# EAGLE library part E?1X07 (library apbteam_con-amp-he14)
Male header simple row, 7 positions
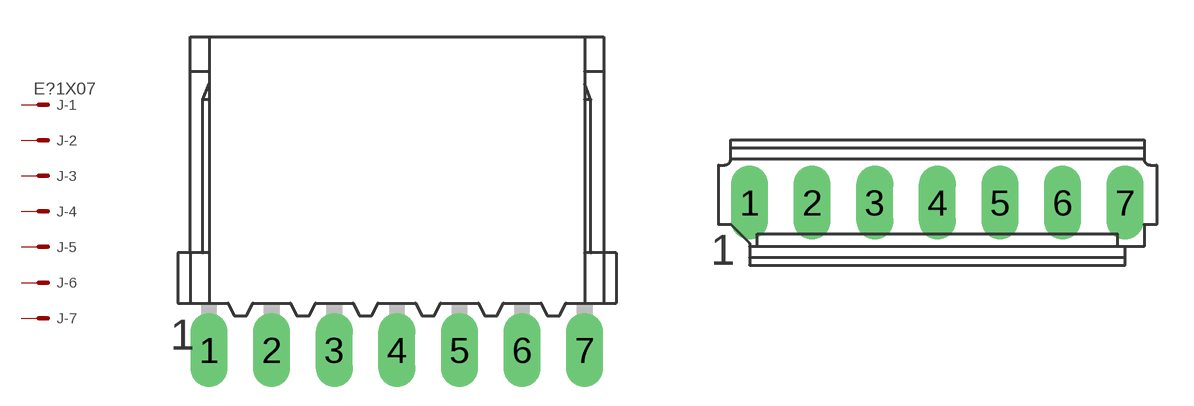
[diagram p1: symbol with the pads of EC1X07; footprints EC1X07, ED1X07]

Designator prefix J; gates -1=MS -2=M -3=M -4=M -5=M -6=M -7=M

## EC1X07  [EC1X07]
1  -1:S  pas
2  -2:S  pas
3  -3:S  pas
4  -4:S  pas
5  -5:S  pas
6  -6:S  pas
7  -7:S  pas

## ED1X07  [ED1X07]
Pads as for EC1X07

## Footprint EC1X07 (pad centres in mm)
Male header simple row, 90° exits, 7 positions HE14, tin plated: 0-281 698-7 HE14, gold plated version: 0-142 777-7 HE13, gold plated version: 0-281 699-7
drill 1 long: 1 -7.62,0; 2 -5.08,0; 3 -2.54,0; 4 0,0; 5 2.54,0; 6 5.08,0; 7 7.62,0

## Footprint ED1X07 (pad centres in mm)
Male header simple row, straight exits, 7 positions HE14, tin plated: 0-281 695-7 HE14, gold plated version: 0-142 776-7 HE13, gold plated version: 0-281 696-7
drill 1 long: 1 -7.62,0; 2 -5.08,0; 3 -2.54,0; 4 0,0; 5 2.54,0; 6 5.08,0; 7 7.62,0